# Altium footprint library Capacitor_Ceramic_SMD.PcbLib: 2 footprints
Each footprint in its own frame and in the unit in brackets; x right, y up, seen from the top. Pads: shape width x height; smd on the part's side, far side on the other; paste and mask are expansions set on the pad; w line width, h text height; cw(c..) or ccw(c..) is an arc to the next point about the centre after c.
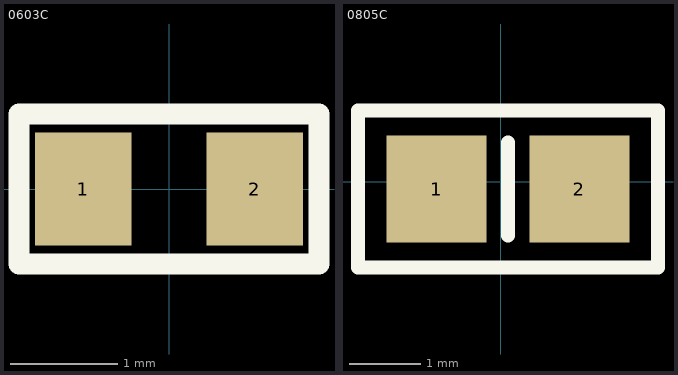
[diagram p0: the footprints below, top view; thin cyan lines are the x and y axes]

## 0603C [mm] "Chip Resistor, 2-Leads, Body 1,40x0,80mm, IPC Medium Density"
height 0.9
pads (2):
  rect 0.9x1.05 smd: 1(-0.8,0) 2(0.8,0)
Top Overlay:
  lines w0.2: -1.4,-0.7 1.4,-0.7 1.4,0.7 -1.4,0.7 -1.4,-0.7
3D body "CAPC-0603-T0.9-BN.stp": height 0.9, standoff 0, extent -0.85,-0.45 0.85,0.45

## 0805C [mm]
pads (2):
  rect 1.4x1.5 smd: 1(-0.9,-0.1) 2(1.1,-0.1)
Top Overlay:
  lines w0.2: 0.1,-0.75 0.1,0.55 ; -2,-1.2 2.2,-1.2 2.2,1 -2,1 -2,-1.2
3D body "CAPC-0805-T1.35-BN.stp": height 1.38, standoff 0.03, extent -0.95,-0.8 1.15,0.55